# Altium schematic symbol library TPS25750DRJKR.SchLib: 1 symbol
Pins are listed as number, name and electrical type; pins without a type are passive.

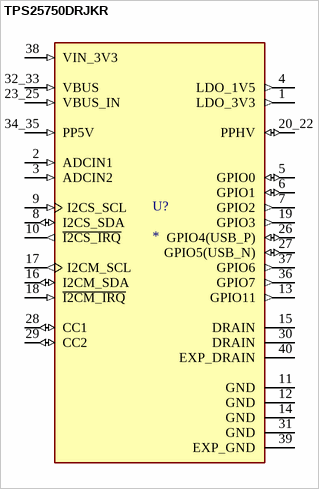
[diagram p0: symbol TPS25750DRJKR]

## TPS25750DRJKR
designator U?
USB, Type-C Controller PMIC 38-WQFN (4x6); MP: TPS25750DRJKR; MF: {'manufacturer': u'Texas Instruments'}; Value: *; Availability: Unavailable; Package: None; Price: None
footprint IC_TPS25750DRJKR
pins: 1 LDO_3V3 (out), 2 ADCIN1 (in), 3 ADCIN2 (in), 4 LDO_1V5 (out), 5 GPIO0 (io), 6 GPIO1 (io), 7 GPIO2 (out), 8 I2CS_SDA (io), 9 I2CS_SCL (in), 10 ~{I2CS_IRQ} (out), 11 GND (power), 12 GND (power), 13 GPIO11 (out), 14 GND (power), 15 DRAIN, 16 I2CM_SDA (io), 17 I2CM_SCL (out), 18 ~{I2CM_IRQ} (in), 19 GPIO3 (out), 20_22 PPHV (io), 23_25 VBUS_IN (in), 26 GPIO4(USB_P) (io), 27 GPIO5(USB_N) (io), 28 CC1 (io), 29 CC2 (io), 30 DRAIN, 31 GND (power), 32_33 VBUS (in), 34_35 PP5V (in), 36 GPIO7 (out), 37 GPIO6 (out), 38 VIN_3V3 (in), 39 EXP_GND (power), 40 EXP_DRAIN